# EAGLE library part CC1100 (library IC)
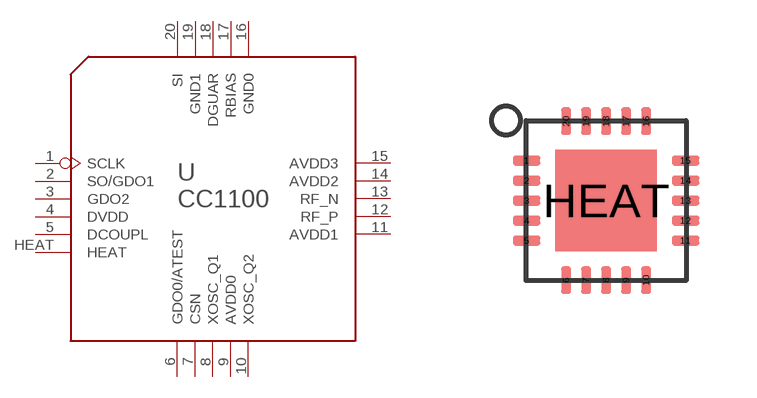
[diagram p38: symbol with the pads of QFN20; footprint QFN20]

Designator prefix U

## CC1100-QFN20  [QFN20]
1  SCLK
2  SO/GDO1
3  GDO2
4  DVDD
5  DCOUPL
6  GDO0/ATEST
7  CSN
8  XOSC_Q1
9  AVDD0
10  XOSC_Q2
11  AVDD1
12  RF_P
13  RF_N
14  AVDD2
15  AVDD3
16  GND0
17  RBIAS
18  DGUAR
19  GND1
20  SI
HEAT  HEAT

## Footprint QFN20 (pad centres in mm)
smd 0.686 x 0.241: 1 -3.986,1.25; 2 -3.986,0.75; 3 -3.986,0.25; 4 -3.986,-0.25; 5 -3.986,-0.75; 11 -0.013,-0.75; 12 -0.013,-0.25; 13 -0.013,0.25; 14 -0.013,0.75; 15 -0.013,1.25
smd 0.241 x 0.686: 6 -3,-1.736; 7 -2.5,-1.736; 8 -2,-1.736; 9 -1.5,-1.736; 10 -1,-1.736; 16 -1,2.236; 17 -1.5,2.236; 18 -2,2.236; 19 -2.5,2.236; 20 -3,2.236
smd 2.54 x 2.54: HEAT -2,0.25